# Altium integrated library Renesas Microcontroller H8S.IntLib: 670 symbols (part 58 of 70)
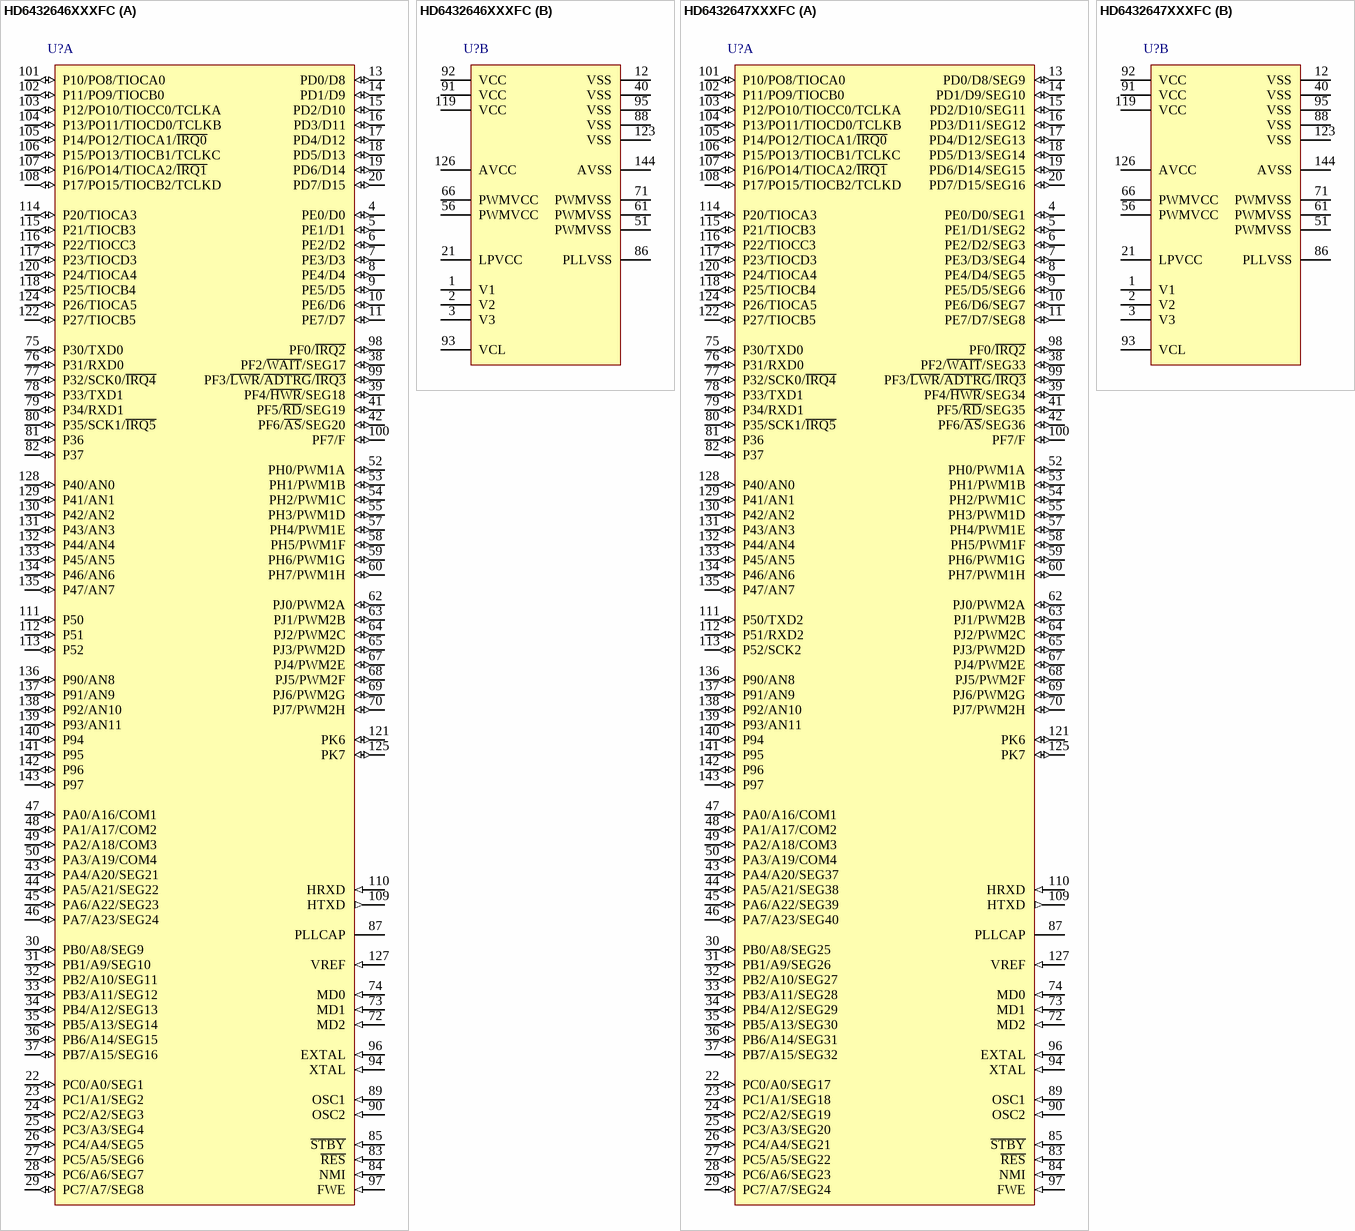
[diagram p373: symbols HD6432646XXXFC to HD6432647XXXFC]

## HD6432647XXXFC
designator U?
Mask ROM H8S/2600 Series, 2648 Group MCU, 64K ROM, 2K RAM, FP-144G Pkg; Published: 28-Aug-2009; DatasheetVersion: Rev.6.00, Mar-2009; PackageVersion: Sep-2005; PackageReference: PRQP0144KA-A; Publisher: Altium Limited; PackageDescription: 144-Pin Plastic Quad Flat Pack, 20 x 20 x 2.7 mm Body, 0.5 mm Pitch; Code_JEITA: P-QFP144-20x20-0.50; ComponentLink1Description: Manufacturer Link; ComponentLink1URL: http://sg.renesas.com/fmwk.jsp?cnt=h8s_family_landing.jsp&fp=/products/mpumcu/h8s_family/; ComponentLink2Description: Datasheet; ComponentLink2URL: http://documentation.renesas.com/eng/products/mpumcu/rej09b0257_2646hm.pdf; ComponentLink3Description: Packaging Specification; ComponentLink3URL: http://sg.renesas.com/media/products/common_info/package/pdf/ic/code/prqp0144ka_a.pdf
footprint PRQP0144KA-A_N (Shrink QFP, 144-Leads, Body 20x20mm, Pitch 0.5mm, IPC Medium Density)
footprint PRQP0144KA-A_L (Shrink QFP, 144-Leads, Body 20x20mm, Pitch 0.5mm, IPC High Density)
footprint PRQP0144KA-A_M (Shrink QFP, 144-Leads, Body 20x20mm, Pitch 0.5mm, IPC Low Density)
part A pins: 4 PE0/D0/SEG1 (io), 5 PE1/D1/SEG2 (io), 6 PE2/D2/SEG3 (io), 7 PE3/D3/SEG4 (io), 8 PE4/D4/SEG5 (io), 9 PE5/D5/SEG6 (io), 10 PE6/D6/SEG7 (io), 11 PE7/D7/SEG8 (io), 13 PD0/D8/SEG9 (io), 14 PD1/D9/SEG10 (io), 15 PD2/D10/SEG11 (io), 16 PD3/D11/SEG12 (io), 17 PD4/D12/SEG13 (io), 18 PD5/D13/SEG14 (io), 19 PD6/D14/SEG15 (io), 20 PD7/D15/SEG16 (io), 22 PC0/A0/SEG17 (io), 23 PC1/A1/SEG18 (io), 24 PC2/A2/SEG19 (io), 25 PC3/A3/SEG20 (io), 26 PC4/A4/SEG21 (io), 27 PC5/A5/SEG22 (io), 28 PC6/A6/SEG23 (io), 29 PC7/A7/SEG24 (io), 30 PB0/A8/SEG25 (io), 31 PB1/A9/SEG26 (io), 32 PB2/A10/SEG27 (io), 33 PB3/A11/SEG28 (io), 34 PB4/A12/SEG29 (io), 35 PB5/A13/SEG30 (io), 36 PB6/A14/SEG31 (io), 37 PB7/A15/SEG32 (io), 38 PF2/~{WAIT}/SEG33 (io), 39 PF4/~{HWR}/SEG34 (io), 41 PF5/~{RD}/SEG35 (io), 42 PF6/~{AS}/SEG36 (io), 43 PA4/A20/SEG37 (io), 44 PA5/A21/SEG38 (io), 45 PA6/A22/SEG39 (io), 46 PA7/A23/SEG40 (io), 47 PA0/A16/COM1 (io), 48 PA1/A17/COM2 (io), 49 PA2/A18/COM3 (io), 50 PA3/A19/COM4 (io), 52 PH0/PWM1A (io), 53 PH1/PWM1B (io), 54 PH2/PWM1C (io), 55 PH3/PWM1D (io), 57 PH4/PWM1E (io), 58 PH5/PWM1F (io), 59 PH6/PWM1G (io), 60 PH7/PWM1H (io), 62 PJ0/PWM2A (io), 63 PJ1/PWM2B (io), 64 PJ2/PWM2C (io), 65 PJ3/PWM2D (io), 67 PJ4/PWM2E (io), 68 PJ5/PWM2F (io), 69 PJ6/PWM2G (io), 70 PJ7/PWM2H (io), 72 MD2 (in), 73 MD1 (in), 74 MD0 (in), 75 P30/TXD0 (io), 76 P31/RXD0 (io), 77 P32/SCK0/~{IRQ4} (io), 78 P33/TXD1 (io), 79 P34/RXD1 (io), 80 P35/SCK1/~{IRQ5} (io), 81 P36 (io), 82 P37 (io), 83 ~{RES} (in), 84 NMI (in), 85 ~{STBY} (in), 87 PLLCAP, 89 OSC1 (in), 90 OSC2 (in), 94 XTAL (in), 96 EXTAL (in), 97 FWE (in), 98 PF0/~{IRQ2} (io), 99 PF3/~{LWR}/~{ADTRG}/~{IRQ3} (io), 100 PF7/F (io), 101 P10/PO8/TIOCA0 (io), 102 P11/PO9/TIOCB0 (io), 103 P12/PO10/TIOCC0/TCLKA (io), 104 P13/PO11/TIOCD0/TCLKB (io), 105 P14/PO12/TIOCA1/~{IRQ0} (io), 106 P15/PO13/TIOCB1/TCLKC (io), 107 P16/PO14/TIOCA2/~{IRQ1} (io), 108 P17/PO15/TIOCB2/TCLKD (io), 109 HTXD (out), 110 HRXD (in), 111 P50/TXD2 (io), 112 P51/RXD2 (io), 113 P52/SCK2 (io), 114 P20/TIOCA3 (io), 115 P21/TIOCB3 (io), 116 P22/TIOCC3 (io), 117 P23/TIOCD3 (io), 118 P25/TIOCB4 (io), 120 P24/TIOCA4 (io), 121 PK6 (io), 122 P27/TIOCB5 (io), 124 P26/TIOCA5 (io), 125 PK7 (io), 127 VREF (in), 128 P40/AN0 (io), 129 P41/AN1 (io), 130 P42/AN2 (io), 131 P43/AN3 (io), 132 P44/AN4 (io), 133 P45/AN5 (io), 134 P46/AN6 (io), 135 P47/AN7 (io), 136 P90/AN8 (io), 137 P91/AN9 (io), 138 P92/AN10 (io), 139 P93/AN11 (io), 140 P94 (io), 141 P95 (io), 142 P96 (io), 143 P97 (io)
part B pins: 1 V1 (power), 2 V2 (power), 3 V3 (power), 12 VSS (power), 21 LPVCC (power), 40 VSS (power), 51 PWMVSS (power), 56 PWMVCC (power), 61 PWMVSS (power), 66 PWMVCC (power), 71 PWMVSS (power), 86 PLLVSS (power), 88 VSS (power), 91 VCC (power), 92 VCC (power), 93 VCL, 95 VSS (power), 119 VCC (power), 123 VSS (power), 126 AVCC (power), 144 AVSS (power)

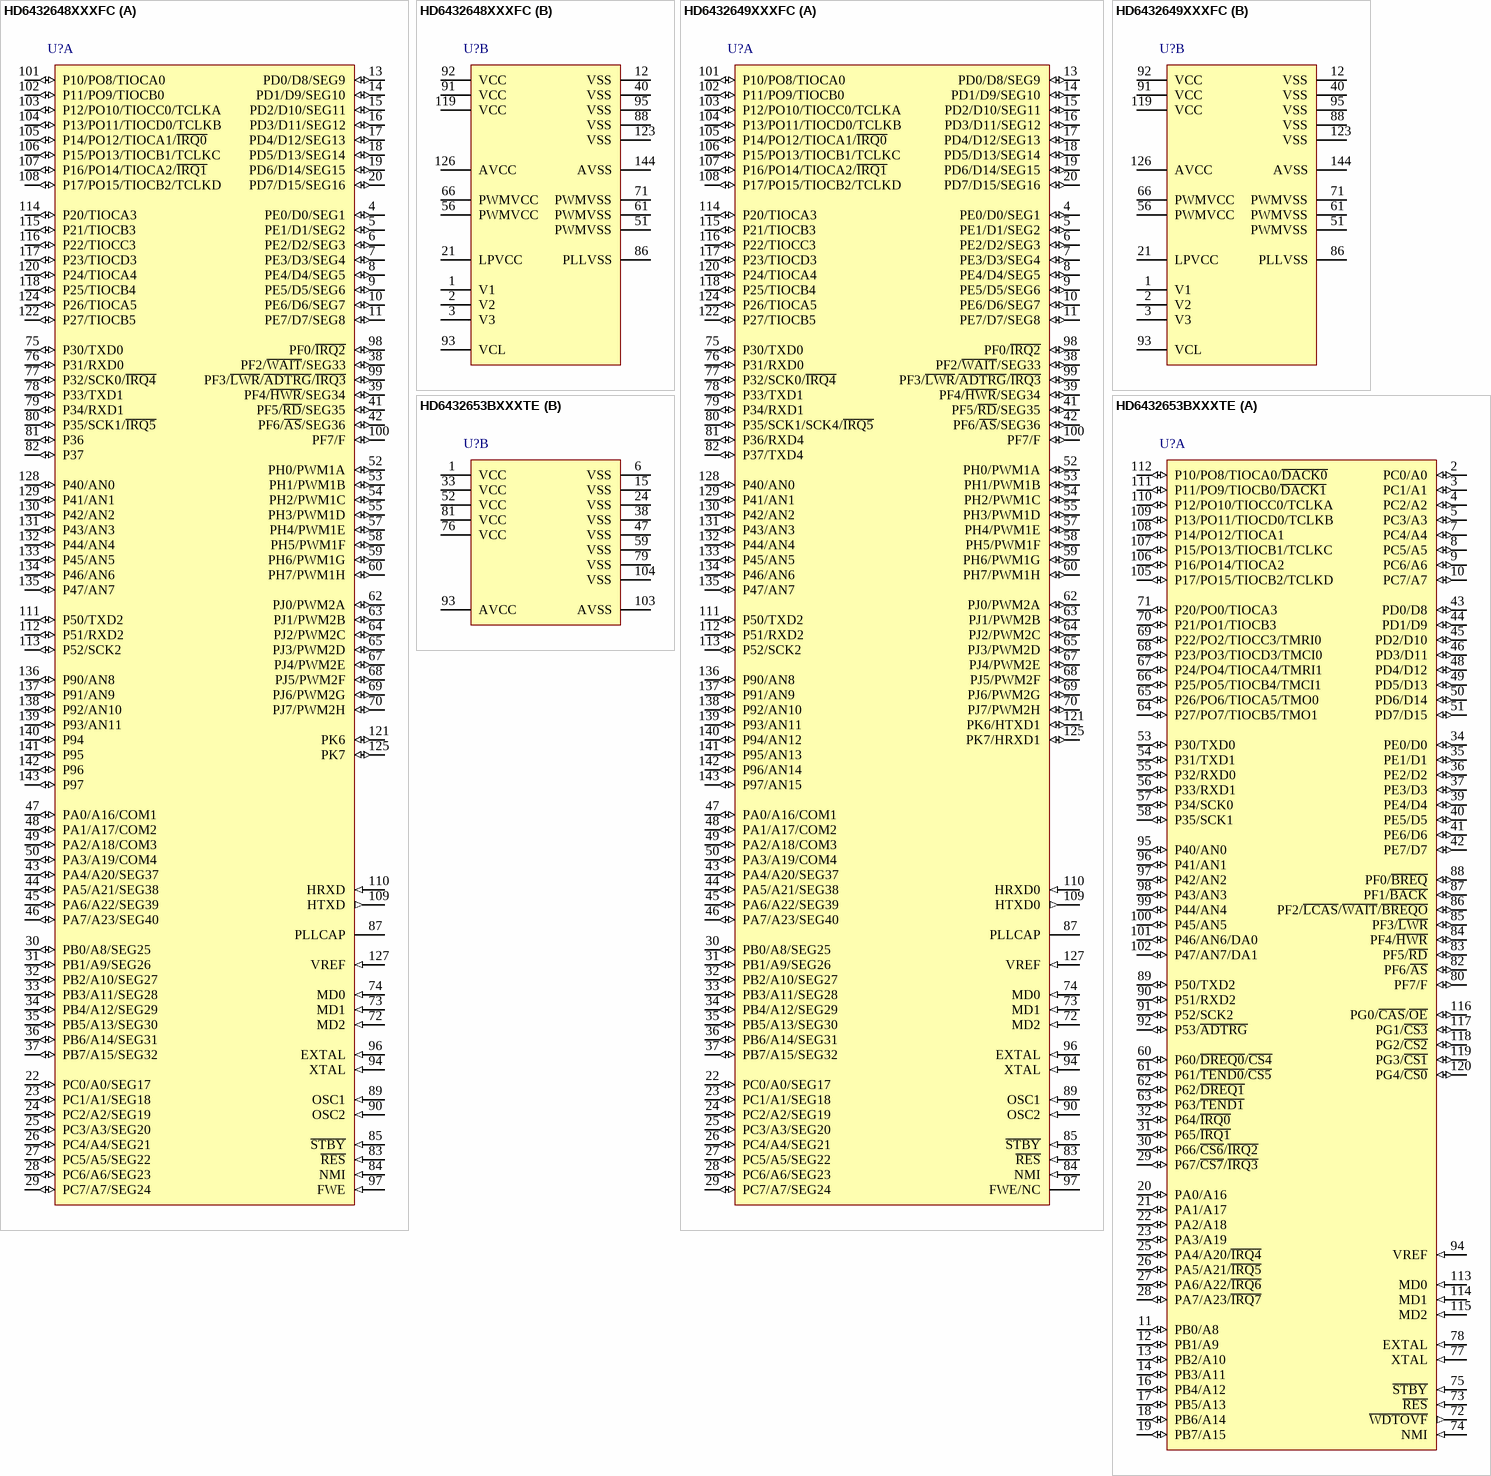
[diagram p203: symbols HD6432648XXXFC to HD6432653BXXXTE]

## HD6432648XXXFC
designator U?
Mask ROM H8S/2600 Series, 2648 Group MCU, 128K ROM, 4K RAM, FP-144G Pkg; Published: 28-Aug-2009; DatasheetVersion: Rev.6.00, Mar-2009; PackageVersion: Sep-2005; PackageReference: PRQP0144KA-A; Publisher: Altium Limited; PackageDescription: 144-Pin Plastic Quad Flat Pack, 20 x 20 x 2.7 mm Body, 0.5 mm Pitch; Code_JEITA: P-QFP144-20x20-0.50; ComponentLink1Description: Manufacturer Link; ComponentLink1URL: http://sg.renesas.com/fmwk.jsp?cnt=h8s_family_landing.jsp&fp=/products/mpumcu/h8s_family/; ComponentLink2Description: Datasheet; ComponentLink2URL: http://documentation.renesas.com/eng/products/mpumcu/rej09b0257_2646hm.pdf; ComponentLink3Description: Packaging Specification; ComponentLink3URL: http://sg.renesas.com/media/products/common_info/package/pdf/ic/code/prqp0144ka_a.pdf
footprint PRQP0144KA-A_N (Shrink QFP, 144-Leads, Body 20x20mm, Pitch 0.5mm, IPC Medium Density)
footprint PRQP0144KA-A_L (Shrink QFP, 144-Leads, Body 20x20mm, Pitch 0.5mm, IPC High Density)
footprint PRQP0144KA-A_M (Shrink QFP, 144-Leads, Body 20x20mm, Pitch 0.5mm, IPC Low Density)
part A pins: 4 PE0/D0/SEG1 (io), 5 PE1/D1/SEG2 (io), 6 PE2/D2/SEG3 (io), 7 PE3/D3/SEG4 (io), 8 PE4/D4/SEG5 (io), 9 PE5/D5/SEG6 (io), 10 PE6/D6/SEG7 (io), 11 PE7/D7/SEG8 (io), 13 PD0/D8/SEG9 (io), 14 PD1/D9/SEG10 (io), 15 PD2/D10/SEG11 (io), 16 PD3/D11/SEG12 (io), 17 PD4/D12/SEG13 (io), 18 PD5/D13/SEG14 (io), 19 PD6/D14/SEG15 (io), 20 PD7/D15/SEG16 (io), 22 PC0/A0/SEG17 (io), 23 PC1/A1/SEG18 (io), 24 PC2/A2/SEG19 (io), 25 PC3/A3/SEG20 (io), 26 PC4/A4/SEG21 (io), 27 PC5/A5/SEG22 (io), 28 PC6/A6/SEG23 (io), 29 PC7/A7/SEG24 (io), 30 PB0/A8/SEG25 (io), 31 PB1/A9/SEG26 (io), 32 PB2/A10/SEG27 (io), 33 PB3/A11/SEG28 (io), 34 PB4/A12/SEG29 (io), 35 PB5/A13/SEG30 (io), 36 PB6/A14/SEG31 (io), 37 PB7/A15/SEG32 (io), 38 PF2/~{WAIT}/SEG33 (io), 39 PF4/~{HWR}/SEG34 (io), 41 PF5/~{RD}/SEG35 (io), 42 PF6/~{AS}/SEG36 (io), 43 PA4/A20/SEG37 (io), 44 PA5/A21/SEG38 (io), 45 PA6/A22/SEG39 (io), 46 PA7/A23/SEG40 (io), 47 PA0/A16/COM1 (io), 48 PA1/A17/COM2 (io), 49 PA2/A18/COM3 (io), 50 PA3/A19/COM4 (io), 52 PH0/PWM1A (io), 53 PH1/PWM1B (io), 54 PH2/PWM1C (io), 55 PH3/PWM1D (io), 57 PH4/PWM1E (io), 58 PH5/PWM1F (io), 59 PH6/PWM1G (io), 60 PH7/PWM1H (io), 62 PJ0/PWM2A (io), 63 PJ1/PWM2B (io), 64 PJ2/PWM2C (io), 65 PJ3/PWM2D (io), 67 PJ4/PWM2E (io), 68 PJ5/PWM2F (io), 69 PJ6/PWM2G (io), 70 PJ7/PWM2H (io), 72 MD2 (in), 73 MD1 (in), 74 MD0 (in), 75 P30/TXD0 (io), 76 P31/RXD0 (io), 77 P32/SCK0/~{IRQ4} (io), 78 P33/TXD1 (io), 79 P34/RXD1 (io), 80 P35/SCK1/~{IRQ5} (io), 81 P36 (io), 82 P37 (io), 83 ~{RES} (in), 84 NMI (in), 85 ~{STBY} (in), 87 PLLCAP, 89 OSC1 (in), 90 OSC2 (in), 94 XTAL (in), 96 EXTAL (in), 97 FWE (in), 98 PF0/~{IRQ2} (io), 99 PF3/~{LWR}/~{ADTRG}/~{IRQ3} (io), 100 PF7/F (io), 101 P10/PO8/TIOCA0 (io), 102 P11/PO9/TIOCB0 (io), 103 P12/PO10/TIOCC0/TCLKA (io), 104 P13/PO11/TIOCD0/TCLKB (io), 105 P14/PO12/TIOCA1/~{IRQ0} (io), 106 P15/PO13/TIOCB1/TCLKC (io), 107 P16/PO14/TIOCA2/~{IRQ1} (io), 108 P17/PO15/TIOCB2/TCLKD (io), 109 HTXD (out), 110 HRXD (in), 111 P50/TXD2 (io), 112 P51/RXD2 (io), 113 P52/SCK2 (io), 114 P20/TIOCA3 (io), 115 P21/TIOCB3 (io), 116 P22/TIOCC3 (io), 117 P23/TIOCD3 (io), 118 P25/TIOCB4 (io), 120 P24/TIOCA4 (io), 121 PK6 (io), 122 P27/TIOCB5 (io), 124 P26/TIOCA5 (io), 125 PK7 (io), 127 VREF (in), 128 P40/AN0 (io), 129 P41/AN1 (io), 130 P42/AN2 (io), 131 P43/AN3 (io), 132 P44/AN4 (io), 133 P45/AN5 (io), 134 P46/AN6 (io), 135 P47/AN7 (io), 136 P90/AN8 (io), 137 P91/AN9 (io), 138 P92/AN10 (io), 139 P93/AN11 (io), 140 P94 (io), 141 P95 (io), 142 P96 (io), 143 P97 (io)
part B pins: 1 V1 (power), 2 V2 (power), 3 V3 (power), 12 VSS (power), 21 LPVCC (power), 40 VSS (power), 51 PWMVSS (power), 56 PWMVCC (power), 61 PWMVSS (power), 66 PWMVCC (power), 71 PWMVSS (power), 86 PLLVSS (power), 88 VSS (power), 91 VCC (power), 92 VCC (power), 93 VCL, 95 VSS (power), 119 VCC (power), 123 VSS (power), 126 AVCC (power), 144 AVSS (power)

## HD6432649XXXFC
designator U?
Mask ROM H8S/2600 Series, 2649 Group MCU, 256K ROM, 8K RAM, FP-144G Pkg; Published: 28-Aug-2009; DatasheetVersion: Rev.3.00, Feb-2009; PackageVersion: Sep-2005; PackageReference: PRQP0144KA-A; Publisher: Altium Limited; PackageDescription: 144-Pin Plastic Quad Flat Pack, 20 x 20 x 2.7 mm Body, 0.5 mm Pitch; Code_JEITA: P-QFP144-20x20-0.50; ComponentLink1Description: Manufacturer Link; ComponentLink1URL: http://sg.renesas.com/fmwk.jsp?cnt=h8s_family_landing.jsp&fp=/products/mpumcu/h8s_family/; ComponentLink2Description: Datasheet; ComponentLink2URL: http://documentation.renesas.com/eng/products/mpumcu/rej09b0200_h8s2649.pdf; ComponentLink3Description: Packaging Specification; ComponentLink3URL: http://sg.renesas.com/media/products/common_info/package/pdf/ic/code/prqp0144ka_a.pdf
footprint PRQP0144KA-A_N (Shrink QFP, 144-Leads, Body 20x20mm, Pitch 0.5mm, IPC Medium Density)
footprint PRQP0144KA-A_L (Shrink QFP, 144-Leads, Body 20x20mm, Pitch 0.5mm, IPC High Density)
footprint PRQP0144KA-A_M (Shrink QFP, 144-Leads, Body 20x20mm, Pitch 0.5mm, IPC Low Density)
part A pins: 4 PE0/D0/SEG1 (io), 5 PE1/D1/SEG2 (io), 6 PE2/D2/SEG3 (io), 7 PE3/D3/SEG4 (io), 8 PE4/D4/SEG5 (io), 9 PE5/D5/SEG6 (io), 10 PE6/D6/SEG7 (io), 11 PE7/D7/SEG8 (io), 13 PD0/D8/SEG9 (io), 14 PD1/D9/SEG10 (io), 15 PD2/D10/SEG11 (io), 16 PD3/D11/SEG12 (io), 17 PD4/D12/SEG13 (io), 18 PD5/D13/SEG14 (io), 19 PD6/D14/SEG15 (io), 20 PD7/D15/SEG16 (io), 22 PC0/A0/SEG17 (io), 23 PC1/A1/SEG18 (io), 24 PC2/A2/SEG19 (io), 25 PC3/A3/SEG20 (io), 26 PC4/A4/SEG21 (io), 27 PC5/A5/SEG22 (io), 28 PC6/A6/SEG23 (io), 29 PC7/A7/SEG24 (io), 30 PB0/A8/SEG25 (io), 31 PB1/A9/SEG26 (io), 32 PB2/A10/SEG27 (io), 33 PB3/A11/SEG28 (io), 34 PB4/A12/SEG29 (io), 35 PB5/A13/SEG30 (io), 36 PB6/A14/SEG31 (io), 37 PB7/A15/SEG32 (io), 38 PF2/~{WAIT}/SEG33 (io), 39 PF4/~{HWR}/SEG34 (io), 41 PF5/~{RD}/SEG35 (io), 42 PF6/~{AS}/SEG36 (io), 43 PA4/A20/SEG37 (io), 44 PA5/A21/SEG38 (io), 45 PA6/A22/SEG39 (io), 46 PA7/A23/SEG40 (io), 47 PA0/A16/COM1 (io), 48 PA1/A17/COM2 (io), 49 PA2/A18/COM3 (io), 50 PA3/A19/COM4 (io), 52 PH0/PWM1A (io), 53 PH1/PWM1B (io), 54 PH2/PWM1C (io), 55 PH3/PWM1D (io), 57 PH4/PWM1E (io), 58 PH5/PWM1F (io), 59 PH6/PWM1G (io), 60 PH7/PWM1H (io), 62 PJ0/PWM2A (io), 63 PJ1/PWM2B (io), 64 PJ2/PWM2C (io), 65 PJ3/PWM2D (io), 67 PJ4/PWM2E (io), 68 PJ5/PWM2F (io), 69 PJ6/PWM2G (io), 70 PJ7/PWM2H (io), 72 MD2 (in), 73 MD1 (in), 74 MD0 (in), 75 P30/TXD0 (io), 76 P31/RXD0 (io), 77 P32/SCK0/~{IRQ4} (io), 78 P33/TXD1 (io), 79 P34/RXD1 (io), 80 P35/SCK1/SCK4/~{IRQ5} (io), 81 P36/RXD4 (io), 82 P37/TXD4 (io), 83 ~{RES} (in), 84 NMI (in), 85 ~{STBY} (in), 87 PLLCAP, 89 OSC1 (in), 90 OSC2 (in), 94 XTAL (in), 96 EXTAL (in), 97 FWE/NC, 98 PF0/~{IRQ2} (io), 99 PF3/~{LWR}/~{ADTRG}/~{IRQ3} (io), 100 PF7/F (io), 101 P10/PO8/TIOCA0 (io), 102 P11/PO9/TIOCB0 (io), 103 P12/PO10/TIOCC0/TCLKA (io), 104 P13/PO11/TIOCD0/TCLKB (io), 105 P14/PO12/TIOCA1/~{IRQ0} (io), 106 P15/PO13/TIOCB1/TCLKC (io), 107 P16/PO14/TIOCA2/~{IRQ1} (io), 108 P17/PO15/TIOCB2/TCLKD (io), 109 HTXD0 (out), 110 HRXD0 (in), 111 P50/TXD2 (io), 112 P51/RXD2 (io), 113 P52/SCK2 (io), 114 P20/TIOCA3 (io), 115 P21/TIOCB3 (io), 116 P22/TIOCC3 (io), 117 P23/TIOCD3 (io), 118 P25/TIOCB4 (io), 120 P24/TIOCA4 (io), 121 PK6/HTXD1 (io), 122 P27/TIOCB5 (io), 124 P26/TIOCA5 (io), 125 PK7/HRXD1 (io), 127 VREF (in), 128 P40/AN0 (io), 129 P41/AN1 (io), 130 P42/AN2 (io), 131 P43/AN3 (io), 132 P44/AN4 (io), 133 P45/AN5 (io), 134 P46/AN6 (io), 135 P47/AN7 (io), 136 P90/AN8 (io), 137 P91/AN9 (io), 138 P92/AN10 (io), 139 P93/AN11 (io), 140 P94/AN12 (io), 141 P95/AN13 (io), 142 P96/AN14 (io), 143 P97/AN15 (io)
part B pins: 1 V1 (power), 2 V2 (power), 3 V3 (power), 12 VSS (power), 21 LPVCC (power), 40 VSS (power), 51 PWMVSS (power), 56 PWMVCC (power), 61 PWMVSS (power), 66 PWMVCC (power), 71 PWMVSS (power), 86 PLLVSS (power), 88 VSS (power), 91 VCC (power), 92 VCC (power), 93 VCL, 95 VSS (power), 119 VCC (power), 123 VSS (power), 126 AVCC (power), 144 AVSS (power)